# Altium schematic symbol library 750032052.SchLib: 1 symbol
Pins are listed as number, name and electrical type; pins without a type are passive.

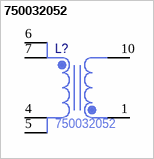
[diagram p0: symbol 750032052]

## 750032052
designator L?
Manufacturer Part Number: 750032052
pins: 1, 4, 5, 6, 7, 10